# Altium schematic symbol library iface.SchLib: 32 symbols
Pins are listed as number, name and electrical type; pins without a type are passive.

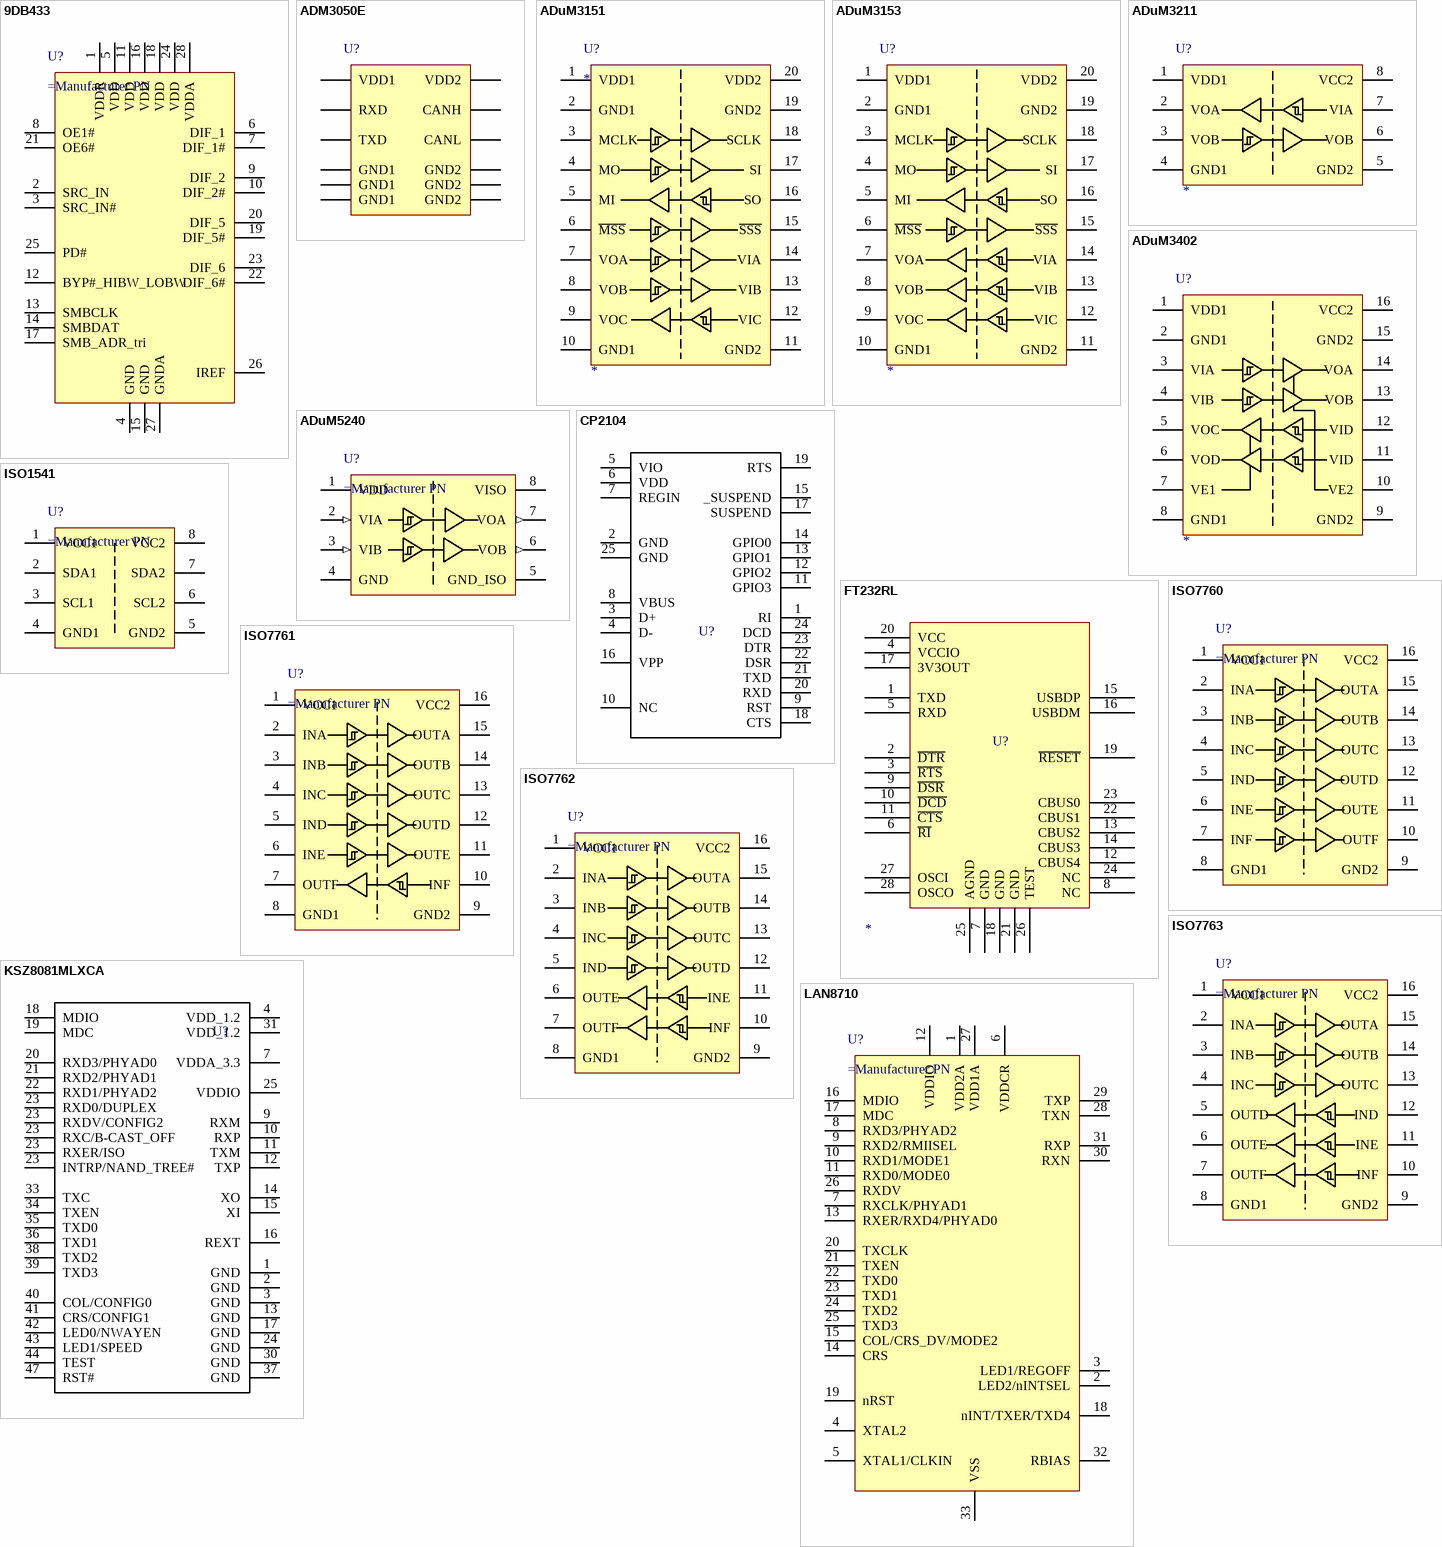
[diagram p0: symbols 9DB433 to LAN8710]

## 9DB433
designator U?
PCIe Clock Fanout Buffer 1:4
pins: 1 VDDR, 2 SRC_IN, 3 SRC_IN#, 4 GND, 5 VDD, 6 DIF_1, 7 DIF_1#, 8 OE1#, 9 DIF_2, 10 DIF_2#, 11 VDD, 12 BYP#_HIBW_LOBW, 13 SMBCLK, 14 SMBDAT, 15 GND, 16 VDD, 17 SMB_ADR_tri, 18 VDD, 19 DIF_5#, 20 DIF_5, 21 OE6#, 22 DIF_6#, 23 DIF_6, 24 VDD, 25 PD#, 26 IREF, 27 GNDA, 28 VDDA

## ADM3050E
designator U?
Isolated CAN bus Transceiver
pins: 1 VDD1, 2 GND1, 3 RXD, 4 NC1 hidden, 5 NC2 hidden, 6 TXD, 7 GND1, 8 GND1, 9 GND2, 10 GND2, 11 NC3 hidden, 12 CANL, 13 CANH, 14 NC4 hidden, 15 GND2, 16 VDD2

## ADuM3151
designator U?
Digital Isolator, SPI-bus; Manufacturer PN: *
pins: 1 VDD1, 2 GND1, 3 MCLK, 4 MO, 5 MI, 6 ~{MSS}, 7 VOA, 8 VOB, 9 VOC, 10 GND1, 11 GND2, 12 VIC, 13 VIB, 14 VIA, 15 ~{SSS}, 16 SO, 17 SI, 18 SCLK, 19 GND2, 20 VDD2

## ADuM3153
designator U?
Digital Isolator, SPI-bus; Manufacturer PN: *
pins: 1 VDD1, 2 GND1, 3 MCLK, 4 MO, 5 MI, 6 ~{MSS}, 7 VOA, 8 VOB, 9 VOC, 10 GND1, 11 GND2, 12 VIC, 13 VIB, 14 VIA, 15 ~{SSS}, 16 SO, 17 SI, 18 SCLK, 19 GND2, 20 VDD2

## ADuM3211
designator U?
Digital Isolator, Dual-Channel; Manufacturer PN: *
pins: 1 VDD1, 2 VOA, 3 VOB, 4 GND1, 5 GND2, 6 VOB, 7 VIA, 8 VCC2

## ADuM3402
designator U?
Digital Isolator, Quad-Channel; Manufacturer PN: *
pins: 1 VDD1, 2 GND1, 3 VIA, 4 VIB, 5 VOC, 6 VOD, 7 VE1, 8 GND1, 9 GND2, 10 VE2, 11 VID, 12 VID, 13 VOB, 14 VOA, 15 GND2, 16 VCC2

## ADuM5240
designator U?
Digital Isolator, 2-Ch, isoPower
pins: 1 VDD (power), 2 VIA (in), 3 VIB (in), 4 GND (power), 5 GND_ISO (power), 6 VOB (out), 7 VOA (out), 8 VISO (power)

## CP2104
designator U?  (value not drawn)
USB to UART Bridge CP2104
pins: 1 RI, 2 GND, 3 D+, 4 D-, 5 VIO, 6 VDD, 7 REGIN, 8 VBUS, 9 RST, 10 NC, 11 GPIO3, 12 GPIO2, 13 GPIO1, 14 GPIO0, 15 _SUSPEND, 16 VPP, 17 SUSPEND, 18 CTS, 19 RTS, 20 RXD, 21 TXD, 22 DSR, 23 DTR, 24 DCD, 25 GND

## FT232RL
designator U?
UART-USB transceiver; Manufacturer PN: *
footprint tssop-28_1 (28-HTSSOP, No Thermal Pad)
pins: 1 TXD, 2 ~{DTR}, 3 ~{RTS}, 4 VCCIO, 5 RXD, 6 ~{RI}, 7 GND, 8 NC, 9 ~{DSR}, 10 ~{DCD}, 11 ~{CTS}, 12 CBUS4, 13 CBUS2, 14 CBUS3, 15 USBDP, 16 USBDM, 17 3V3OUT, 18 GND, 19 ~{RESET}, 20 VCC, 21 GND, 22 CBUS1, 23 CBUS0, 24 NC, 25 AGND, 26 TEST, 27 OSCI, 28 OSCO

## ISO1541
designator U?
Bidirectional I2C Isolator
pins: 1 VCC1, 2 SDA1, 3 SCL1, 4 GND1, 5 GND2, 6 SCL2, 7 SDA2, 8 VCC2

## ISO7760
designator U?
High-Speed 6-ch digital isolator
pins: 1 VCC1, 2 INA, 3 INB, 4 INC, 5 IND, 6 INE, 7 INF, 8 GND1, 9 GND2, 10 OUTF, 11 OUTE, 12 OUTD, 13 OUTC, 14 OUTB, 15 OUTA, 16 VCC2

## ISO7761
designator U?
High-Speed 6-ch digital isolator
pins: 1 VCC1, 2 INA, 3 INB, 4 INC, 5 IND, 6 INE, 7 OUTF, 8 GND1, 9 GND2, 10 INF, 11 OUTE, 12 OUTD, 13 OUTC, 14 OUTB, 15 OUTA, 16 VCC2

## ISO7762
designator U?
High-Speed 6-ch digital isolator
pins: 1 VCC1, 2 INA, 3 INB, 4 INC, 5 IND, 6 OUTE, 7 OUTF, 8 GND1, 9 GND2, 10 INF, 11 INE, 12 OUTD, 13 OUTC, 14 OUTB, 15 OUTA, 16 VCC2

## ISO7763
designator U?
High-Speed 6-ch digital isolator
pins: 1 VCC1, 2 INA, 3 INB, 4 INC, 5 OUTD, 6 OUTE, 7 OUTF, 8 GND1, 9 GND2, 10 INF, 11 INE, 12 IND, 13 OUTC, 14 OUTB, 15 OUTA, 16 VCC2

## KSZ8081MLXCA
designator U?  (value not drawn)
Ethernet PHY 10/100 Microchip
footprint LQFP48 - 7x7 (TSQFP, 48-Leads, Body 7.00x7.00mm, Pitch 0.50mm, IPC Medium Density)
pins: 1 GND, 2 GND, 3 GND, 4 VDD_1.2, 7 VDDA_3.3, 9 RXM, 10 RXP, 11 TXM, 12 TXP, 13 GND, 14 XO, 15 XI, 16 REXT, 17 GND, 18 MDIO, 19 MDC, 20 RXD3/PHYAD0, 21 RXD2/PHYAD1, 22 RXD1/PHYAD2, 23 RXD0/DUPLEX, 23 RXDV/CONFIG2, 23 RXC/B-CAST_OFF, 23 RXER/ISO, 23 INTRP/NAND_TREE#, 24 GND, 25 VDDIO, 30 GND, 31 VDD_1.2, 33 TXC, 34 TXEN, 35 TXD0, 36 TXD1, 37 GND, 38 TXD2, 39 TXD3, 40 COL/CONFIG0, 41 CRS/CONFIG1, 42 LED0/NWAYEN, 43 LED1/SPEED, 44 TEST, 47 RST#

## LAN8710
designator U?
10/100 Ethernet Transceiver
pins: 1 VDD2A, 2 LED2/nINTSEL, 3 LED1/REGOFF, 4 XTAL2, 5 XTAL1/CLKIN, 6 VDDCR, 7 RXCLK/PHYAD1, 8 RXD3/PHYAD2, 9 RXD2/RMIISEL, 10 RXD1/MODE1, 11 RXD0/MODE0, 12 VDDIO, 13 RXER/RXD4/PHYAD0, 14 CRS, 15 COL/CRS_DV/MODE2, 16 MDIO, 17 MDC, 18 nINT/TXER/TXD4, 19 nRST, 20 TXCLK, 21 TXEN, 22 TXD0, 23 TXD1, 24 TXD2, 25 TXD3, 26 RXDV, 27 VDD1A, 28 TXN, 29 TXP, 30 RXN, 31 RXP, 32 RBIAS, 33 VSS

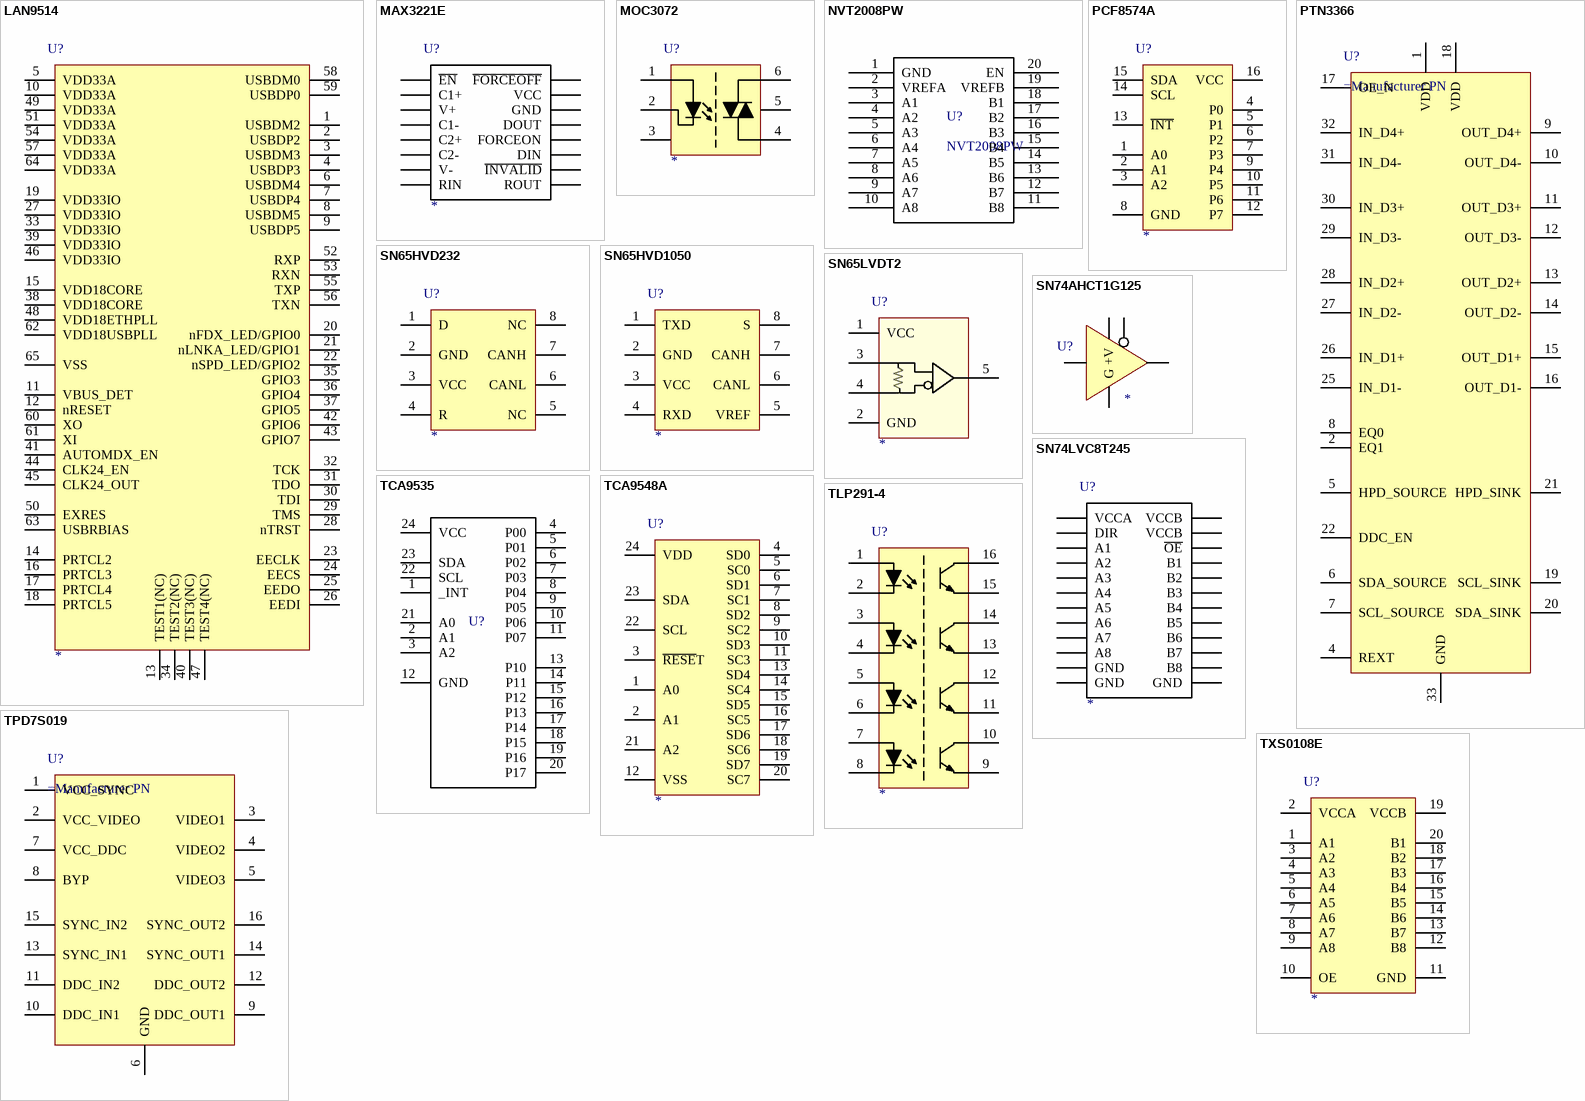
[diagram p1: symbols LAN9514 to TXS0108E]

## LAN9514
designator U?
USB 2.0 Hub and 10/100 Ethernet Controller; Manufacturer PN: *
pins: 1 USBDM2, 2 USBDP2, 3 USBDM3, 4 USBDP3, 5 VDD33A, 6 USBDM4, 7 USBDP4, 8 USBDM5, 9 USBDP5, 10 VDD33A, 11 VBUS_DET, 12 nRESET, 13 TEST1(NC), 14 PRTCL2, 15 VDD18CORE, 16 PRTCL3, 17 PRTCL4, 18 PRTCL5, 19 VDD33IO, 20 nFDX_LED/GPIO0, 21 nLNKA_LED/GPIO1, 22 nSPD_LED/GPIO2, 23 EECLK, 24 EECS, 25 EEDO, 26 EEDI, 27 VDD33IO, 28 nTRST, 29 TMS, 30 TDI, 31 TDO, 32 TCK, 33 VDD33IO, 34 TEST2(NC), 35 GPIO3, 36 GPIO4, 37 GPIO5, 38 VDD18CORE, 39 VDD33IO, 40 TEST3(NC), 41 AUTOMDX_EN, 42 GPIO6, 43 GPIO7, 44 CLK24_EN, 45 CLK24_OUT, 46 VDD33IO, 47 TEST4(NC), 48 VDD18ETHPLL, 49 VDD33A, 50 EXRES, 51 VDD33A, 52 RXP, 53 RXN, 54 VDD33A, 55 TXP, 56 TXN, 57 VDD33A, 58 USBDM0, 59 USBDP0, 60 XO, 61 XI, 62 VDD18USBPLL, 63 USBRBIAS, 64 VDD33A, 65 VSS

## MAX3221E
designator U?
RS-232 Transceiver, Single channel; Manufacturer PN: *
footprint tssop-16_0 (TSSOP-16 No Pad)
pins: 1 ~{EN}, 2 C1+, 3 V+, 4 C1-, 5 C2+, 6 C2-, 7 V-, 8 RIN, 9 ROUT, 10 ~{INVALID}, 11 DIN, 12 FORCEON, 13 DOUT, 14 GND, 15 VCC, 16 ~{FORCEOFF}

## MOC3072
designator U?
Manufacturer PN: *
pins: 1 A, 2 C, 3 NC, 4 M2, 5 NC, 6 M1

## NVT2008PW
designator U?
Bidirectional Voltage Level Translator
footprint TSSOP-20_0 (TSOP, 20-Leads, Body 6.50x4.40mm, Pitch 0.65mm, IPC Medium Density)
pins: 1 GND, 2 VREFA, 3 A1, 4 A2, 5 A3, 6 A4, 7 A5, 8 A6, 9 A7, 10 A8, 11 B8, 12 B7, 13 B6, 14 B5, 15 B4, 16 B3, 17 B2, 18 B1, 19 VREFB, 20 EN

## PCF8574A
designator U?
Remote I2C 8-bit I/O expander; Manufacturer PN: *
pins: 1 A0, 2 A1, 3 A2, 4 P0, 5 P1, 6 P2, 7 P3, 8 GND, 9 P4, 10 P5, 11 P6, 12 P7, 13 ~{INT}, 14 SCL, 15 SDA, 16 VCC

## PTN3366
designator U?
Video Level Shifter
pins: 1 VDD, 2 EQ1, 3 NC hidden, 4 REXT, 5 HPD_SOURCE, 6 SDA_SOURCE, 7 SCL_SOURCE, 8 EQ0, 9 OUT_D4+, 10 OUT_D4-, 11 OUT_D3+, 12 OUT_D3-, 13 OUT_D2+, 14 OUT_D2-, 15 OUT_D1+, 16 OUT_D1-, 17 OE_N, 18 VDD, 19 SCL_SINK, 20 SDA_SINK, 21 HPD_SINK, 22 DDC_EN, 23 NC hidden, 24 NC hidden, 25 IN_D1-, 26 IN_D1+, 27 IN_D2-, 28 IN_D2+, 29 IN_D3-, 30 IN_D3+, 31 IN_D4-, 32 IN_D4+, 33 GND

## SN65HVD232
designator U?
CANbus Transceiver; Manufacturer PN: *
pins: 1 D, 2 GND, 3 VCC, 4 R, 5 NC, 6 CANL, 7 CANH, 8 NC

## SN65HVD1050
designator U?
CAN bus Tranceiver; Manufacturer PN: *
pins: 1 TXD, 2 GND, 3 VCC, 4 RXD, 5 VREF, 6 CANL, 7 CANH, 8 S

## SN65LVDT2
designator U?
Differential Line Receiver; Manufacturer PN: *
pins: 1 VCC, 2 GND, 3 A, 4 B, 5 OUT

## SN74AHCT1G125
designator U?
Single Bus Buffer Gate 3-State Output; Manufacturer PN: *
pins: 1 ~{OE}, 2 A, 3 G, 4 Y, 5 +V

## SN74LVC8T245
designator U?
8-bit dual supply bus transceiver; Manufacturer PN: *
footprint tssop-24_0 (TSOP, 24-Leads, Body 7.80x4.40mm, Pitch 0.65mm, IPC Medium Density)
pins: 1 VCCA, 2 DIR, 3 A1, 4 A2, 5 A3, 6 A4, 7 A5, 8 A6, 9 A7, 10 A8, 11 GND, 12 GND, 13 GND, 14 B8, 15 B7, 16 B6, 17 B5, 18 B4, 19 B3, 20 B2, 21 B1, 22 ~{OE}, 23 VCCB, 24 VCCB

## TCA9535
designator U?  (value not drawn)
IO Expander, TCA9535
pins: 1 _INT, 2 A1, 3 A2, 4 P00, 5 P01, 6 P02, 7 P03, 8 P04, 9 P05, 10 P06, 11 P07, 12 GND, 13 P10, 14 P11, 15 P12, 16 P13, 17 P14, 18 P15, 19 P16, 20 P17, 21 A0, 22 SCL, 23 SDA, 24 VCC

## TCA9548A
designator U?
I2C 8-Channle Mux, TCA9548A; Manufacturer PN: *
footprint tssop-24_0 (TSOP, 24-Leads, Body 7.80x4.40mm, Pitch 0.65mm, IPC Medium Density)
pins: 1 A0, 2 A1, 3 ~{RESE}T, 4 SD0, 5 SC0, 6 SD1, 7 SC1, 8 SD2, 9 SC2, 10 SD3, 11 SC3, 12 VSS (power), 13 SD4, 14 SC4, 15 SD5, 16 SC5, 17 SD6, 18 SC6, 19 SD7, 20 SC7, 21 A2, 22 SCL, 23 SDA, 24 VDD (power)

## TLP291-4
designator U?
Photo Transistor Array; Manufacturer PN: *
pins: 1, 2, 3, 4, 5, 6, 7, 8, 9, 10, 11, 12, 13, 14, 15, 16

## TPD7S019
designator U?
VGA ESD Protection chip
pins: 1 VCC_SYNC, 2 VCC_VIDEO, 3 VIDEO1, 4 VIDEO2, 5 VIDEO3, 6 GND, 7 VCC_DDC, 8 BYP, 9 DDC_OUT1, 10 DDC_IN1, 11 DDC_IN2, 12 DDC_OUT2, 13 SYNC_IN1, 14 SYNC_OUT1, 15 SYNC_IN2, 16 SYNC_OUT2

## TXS0108E
designator U?
Bidirectional Level Shifter; Manufacturer PN: *
pins: 1 A1, 2 VCCA, 3 A2, 4 A3, 5 A4, 6 A5, 7 A6, 8 A7, 9 A8, 10 OE, 11 GND, 12 B8, 13 B7, 14 B6, 15 B5, 16 B4, 17 B3, 18 B2, 19 VCCB, 20 B1